# EAGLE library part TPS2114 (library harp timestamp generator Gen3)
AUTOSWITCHING POWER MULTIPLEXER Two-Input, One-Output Power Multiplexer Operating Voltage Range: 2.8 V to 5.5 V Adjustable Current Limit
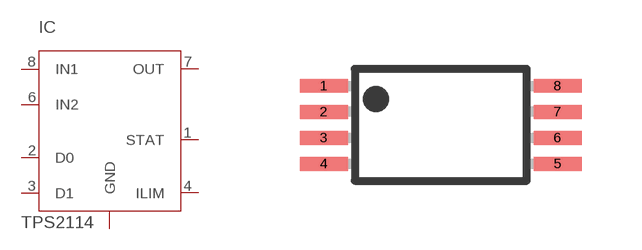
[diagram p8: symbol with the pads of TSSOP8; footprint TSSOP8]

Designator prefix IC

## TPS2114  [TSSOP8]
1  STAT
2  D0
3  D1
4  ILIM
5  GND
6  IN2
7  OUT
8  IN1

## Footprint TSSOP8 (pad centres in mm)
Plastic Small Outline
smd 1.2 x 0.35: 1 -2.925,0.975; 2 -2.925,0.325; 3 -2.925,-0.325; 4 -2.925,-0.975; 5 2.925,-0.975; 6 2.925,-0.325; 7 2.925,0.325; 8 2.925,0.975